# Altium footprint library Discretes.PcbLib: 56 footprints (part 2 of 4)
Each footprint in its own frame and in the unit in brackets; x right, y up, seen from the top. Pads: shape width x height; smd on the part's side, far side on the other; paste and mask are expansions set on the pad; w line width, h text height; cw(c..) or ccw(c..) is an arc to the next point about the centre after c.
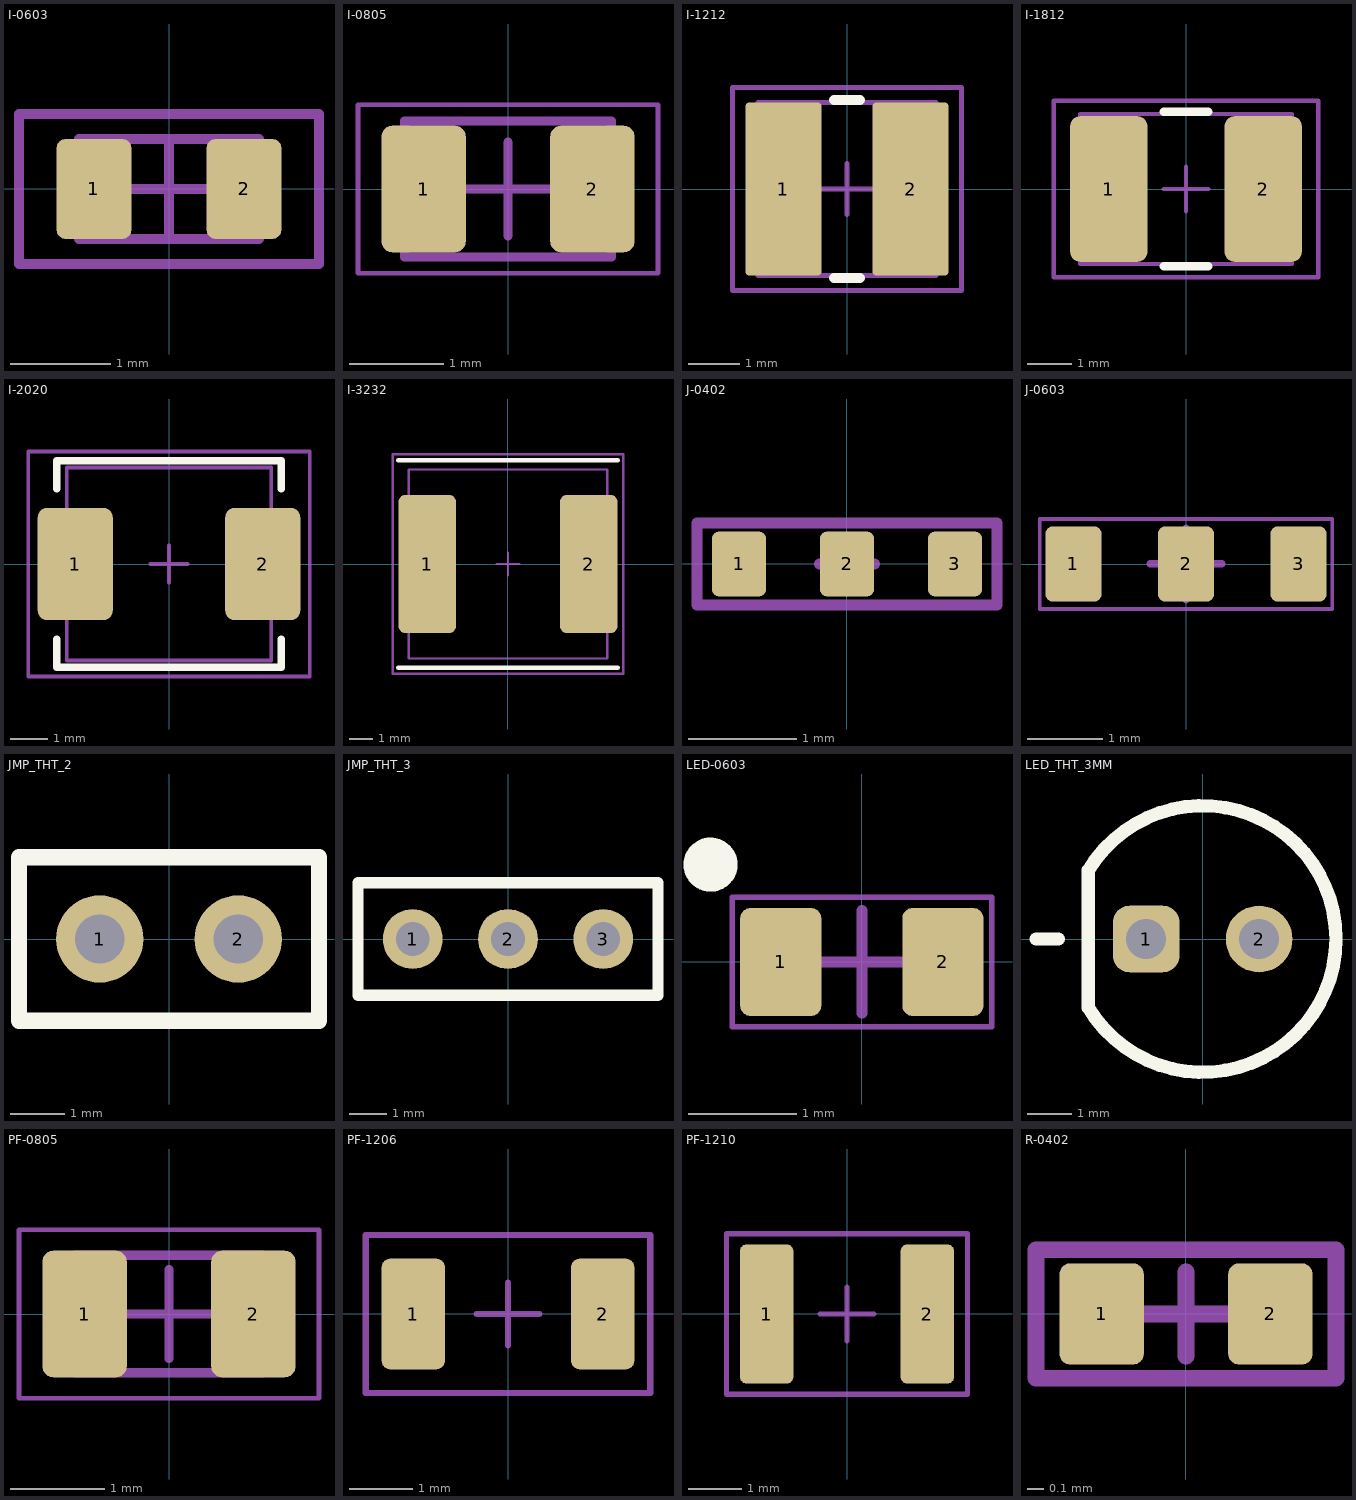
[diagram p1: the footprints below, top view; thin cyan lines are the x and y axes]

## I-0603 [mm] "Chip Inductor, 2-Leads, Body 1.6x0.8mm"
height 1
pads (2):
  rrect25% 0.75x1 smd: 1(-0.75,0) 2(0.75,0)
Mechanical 13:
  lines w0.1: -0.9,-0.5 0.9,-0.5 0.9,0.5 -0.9,0.5 -0.9,-0.5
Mechanical 15:
  lines w0.1: -0.475,0 0.475,0 ; 0,-0.475 0,0.475 ; -1.5,-0.75 1.5,-0.75 1.5,0.75 -1.5,0.75 -1.5,-0.75
3D body "742792623.stp": height 0.79, standoff -0.01, extent -0.8,-0.4 0.8,0.401

## I-0805 [mm] "Chip Inductor, 2-Leads, Body 2,00x1,25mm, IPC Medium Density"
height 0.95
pads (2):
  rrect25% 0.9x1.35 smd: 1(-0.9,0) 2(0.9,0)
Mechanical 13:
  lines w0.1: -1.1,-0.725 1.1,-0.725 1.1,0.725 -1.1,0.725 -1.1,-0.725
Mechanical 15:
  lines w0.05: -1.6,-0.9 1.6,-0.9 1.6,0.9 -1.6,0.9 -1.6,-0.9
  lines w0.1: -0.5,0 0.5,0 ; 0,-0.5 0,0.5
3D body "INDC2012X09N.step": height 0.95, standoff 0, extent -1.1,-0.725 1.1,0.725

## I-1212 [mm] "SMD Inductor 1212"
height 2
pads (2):
  rrect10% 1.5x3.4 smd: 1(-1.25,0) 2(1.25,0)
Top Overlay:
  lines w0.2: -0.25,-1.75 0.25,-1.75 ; -0.25,1.75 0.25,1.75
Mechanical 13:
  lines w0.1: -1.75,-1.7 1.75,-1.7 1.75,1.7 -1.75,1.7 -1.75,-1.7
Mechanical 15:
  lines w0.1: -0.5,0 0.5,0 ; 0,-0.5 0,0.5 ; -2.25,-2 2.25,-2 2.25,2 -2.25,2 -2.25,-2
3D body "74438336010_Download_STP_WE-MAPI-3020_rev1.stp": height 2, standoff 0, extent -1.5,-1.5 1.5,1.5

## I-1812 [mm] "SMD Inductor 1812"
height 3
pads (2):
  rrect25% 1.75x3.3 smd: 1(-1.75,0) 2(1.75,0)
Top Overlay:
  lines w0.2: -0.5,-1.75 0.5,-1.75 ; -0.5,1.75 0.5,1.75
Mechanical 13:
  lines w0.1: -2.4,-1.7 -2.4,1.7 2.4,1.7 2.4,-1.7 -2.4,-1.7
Mechanical 15:
  lines w0.1: -0.5,0 0.5,0 ; 0,-0.5 0,0.5 ; -3,-2 -3,2 3,2 3,-2 -3,-2
3D body "STEP-WE-LQ-1812-rev1.stp": height 2.61, standoff 0.01, extent -2.25,-1.6 2.25,1.6

## I-2020 [mm] "SMD Inductor 2020"
height 3
pads (2):
  rrect25% 2x3 smd: 1(-2.5,0) 2(2.5,0)
Top Overlay:
  lines w0.2: -3,-2 -3,-2.75 3,-2.75 3,-2 ; -3,2 -3,2.75 3,2.75 3,2
Mechanical 13:
  lines w0.1: -2.725,-2.573 -2.725,2.573 2.725,2.573 2.725,-2.573 -2.725,-2.573
Mechanical 15:
  lines w0.1: -0.5,0 0.5,0 ; 0,-0.5 0,0.5 ; -3.75,-3 -3.75,3 3.75,3 3.75,-3 -3.75,-3
3D body "IHLP2020CZ.step": height 2.86, standoff 0, extent -2.725,-2.573 2.725,2.573

## I-3232 [mm] "SMD Inductor 3232"
height 3
pads (2):
  rrect25% 2.5x6 smd: 1(-3.5,0) 2(3.5,0)
Top Overlay:
  lines w0.2: -4.75,-4.5 4.75,-4.5 ; -4.75,4.5 4.75,4.5
Mechanical 13:
  lines w0.1: -4.3,-4.097 4.3,-4.097 4.3,4.097 -4.3,4.097 -4.3,-4.097
Mechanical 15:
  lines w0.1: -0.5,0 0.5,0 ; 0,-0.5 0,0.5 ; -5,-4.75 5,-4.75 5,4.75 -5,4.75 -5,-4.75
3D body "IHLP3232DZ.step": height 3.87, standoff -0.03, extent -4.3,-4.097 4.3,4.097

## J-0402 [mm] "SMD Resistor 0402 Jumper"
height 0.5
pads (3):
  rrect25% 0.5x0.6 smd: 1(-1,0) 2(0,0) 3(1,0)
Mechanical 15:
  lines w0.1: -0.254,0 0.254,0 ; 0,-0.25 0,0.25 ; -1.389,-0.381 1.389,-0.381 1.389,0.381 -1.389,0.381 -1.389,-0.381
3D body "R_0402_1005Metric.step": height 0.35, standoff 0, extent -1,-0.25 0,0.25

## J-0603 [mm] "SMD Resistor 0603 Jumper"
height 0.5
pads (3):
  rrect25% 0.75x1 smd: 1(-1.5,0) 2(0,0) 3(1.5,0)
Mechanical 15:
  lines w0.05: -1.95,-0.6 -1.95,0.6 1.95,0.6 1.95,-0.6 -1.95,-0.6
  lines w0.1: -0.475,0 0.475,0 ; 0,-0.475 0,0.475
3D body "R_0603_1608Metric.step": height 0.45, standoff 0, extent -1.55,-0.4 0.05,0.4

## JMP_THT_2 [mm] "Jumper Terminal"
height 12
pads (2):
  round 1.6 hole 0.9: 1(-1.27,0) 2(1.27,0)
Top Overlay:
  lines w0.3: -2.75,-1.5 2.75,-1.5 2.75,1.5 -2.75,1.5 -2.75,-1.5
3D body "68000-2_Position_Gold-Tin.STEP": height 8.39, standoff -2.41, extent -2.54,-1.2 2.54,1.2

## JMP_THT_3 [mm] "Jumper Terminal"
height 12
pads (3):
  round 1.6 hole 0.9: 1(-2.54,0) 2(0,0) 3(2.54,0)
Top Overlay:
  lines w0.3: -4,-1.5 4,-1.5 4,1.5 -4,1.5 -4,-1.5
3D body "2303-6111-TG 5,84.STEP": height 8.38, standoff -2.55, extent -3.81,-1.27 3.81,1.27

## LED-0603 [mm] "LED 0603"
height 1
pads (2):
  rrect25% 0.75x1 smd: 1(-0.75,0) 2(0.75,0)
Top Overlay:
  circle w0.25: c-1.4,0.9 r0.125
Mechanical 15:
  lines w0.05: -1.2,-0.6 -1.2,0.6 1.2,0.6 1.2,-0.6 -1.2,-0.6
  lines w0.1: -0.475,0 0.475,0 ; 0,-0.475 0,0.475
3D body "150060AS75000_STP_150060xS75000_rev1.stp": height 0.7, standoff 0, extent -0.8,-0.4 0.8,0.4

## LED_THT_3MM [mm] "Through Hole 3mm LED"
height 12
pads (2):
  rrect50% 1.5x1.5 hole 0.9: 1(-1.27,0)
  round 1.5 hole 0.9: 2(1.27,0)
Top Overlay:
  lines w0.3: -3.75,0 -3.25,0 ; -2.572,-1.543 ccw(c0,0) -2.572,1.543 -2.572,-1.543
3D body "Download_STP_WL-TMRW-151033xxx_rev1.stp": height 9.8, standoff -20.4, extent -1.87,-1.949 1.95,1.949

## PF-0805 [mm] "Chip Polyfuse 0805"
height 2
pads (2):
  rrect25% 0.9x1.35 smd: 1(-0.9,0) 2(0.9,0)
Mechanical 13:
  lines w0.1: -1,-0.625 1,-0.625 1,0.625 -1,0.625 -1,-0.625
Mechanical 15:
  lines w0.05: -1.6,-0.9 1.6,-0.9 1.6,0.9 -1.6,0.9 -1.6,-0.9
  lines w0.1: -0.475,0 0.475,0 ; 0,-0.475 0,0.475
3D body "Fuse_0805_2012Metric.step": height 0.45, standoff 0, extent -1,-0.625 1,0.625

## PF-1206 [mm] "Chip Polyfuse 1206"
height 3
pads (2):
  rrect25% 1x1.75 smd: 1(-1.5,0) 2(1.5,0)
Mechanical 15:
  lines w0.1: -0.5,0 0.5,0 ; 0,-0.5 0,0.5 ; -2.25,-1.25 -2.25,1.25 2.25,1.25 2.25,-1.25 -2.25,-1.25
3D body "Fuse_1206_3216Metric.step": height 0.55, standoff 0, extent -1.6,-0.8 1.6,0.8

## PF-1210 [mm] "Chip Polyfuse 1210"
height 5
pads (2):
  rrect25% 1x2.6 smd: 1(-1.5,0) 2(1.5,0)
Mechanical 15:
  lines w0.1: -0.5,0 0.5,0 ; 0,-0.5 0,0.5 ; -2.25,-1.5 2.25,-1.5 2.25,1.5 -2.25,1.5 -2.25,-1.5
3D body "Fuse_1210_3225Metric.step": height 1.6, standoff 0, extent -1.6,-1.25 1.6,1.25

## R-0402 [mm] "SMD Resistor 0402"
height 0.5
pads (2):
  rrect25% 0.5x0.6 smd: 1(-0.5,0) 2(0.5,0)
Mechanical 15:
  lines w0.1: -0.254,0 0.254,0 ; 0,-0.25 0,0.25 ; -0.889,-0.381 0.889,-0.381 0.889,0.381 -0.889,0.381 -0.889,-0.381
3D body "R_0402_1005Metric.step": height 0.35, standoff 0, extent -0.5,-0.25 0.5,0.25